# Altium footprint library 地学电子仪器设计与实践封装库.PcbLib: 17 footprints (part 1 of 2)
Each footprint in its own frame and in the unit in brackets; x right, y up, seen from the top. Pads: shape width x height; smd on the part's side, far side on the other; paste and mask are expansions set on the pad; w line width, h text height; cw(c..) or ccw(c..) is an arc to the next point about the centre after c.
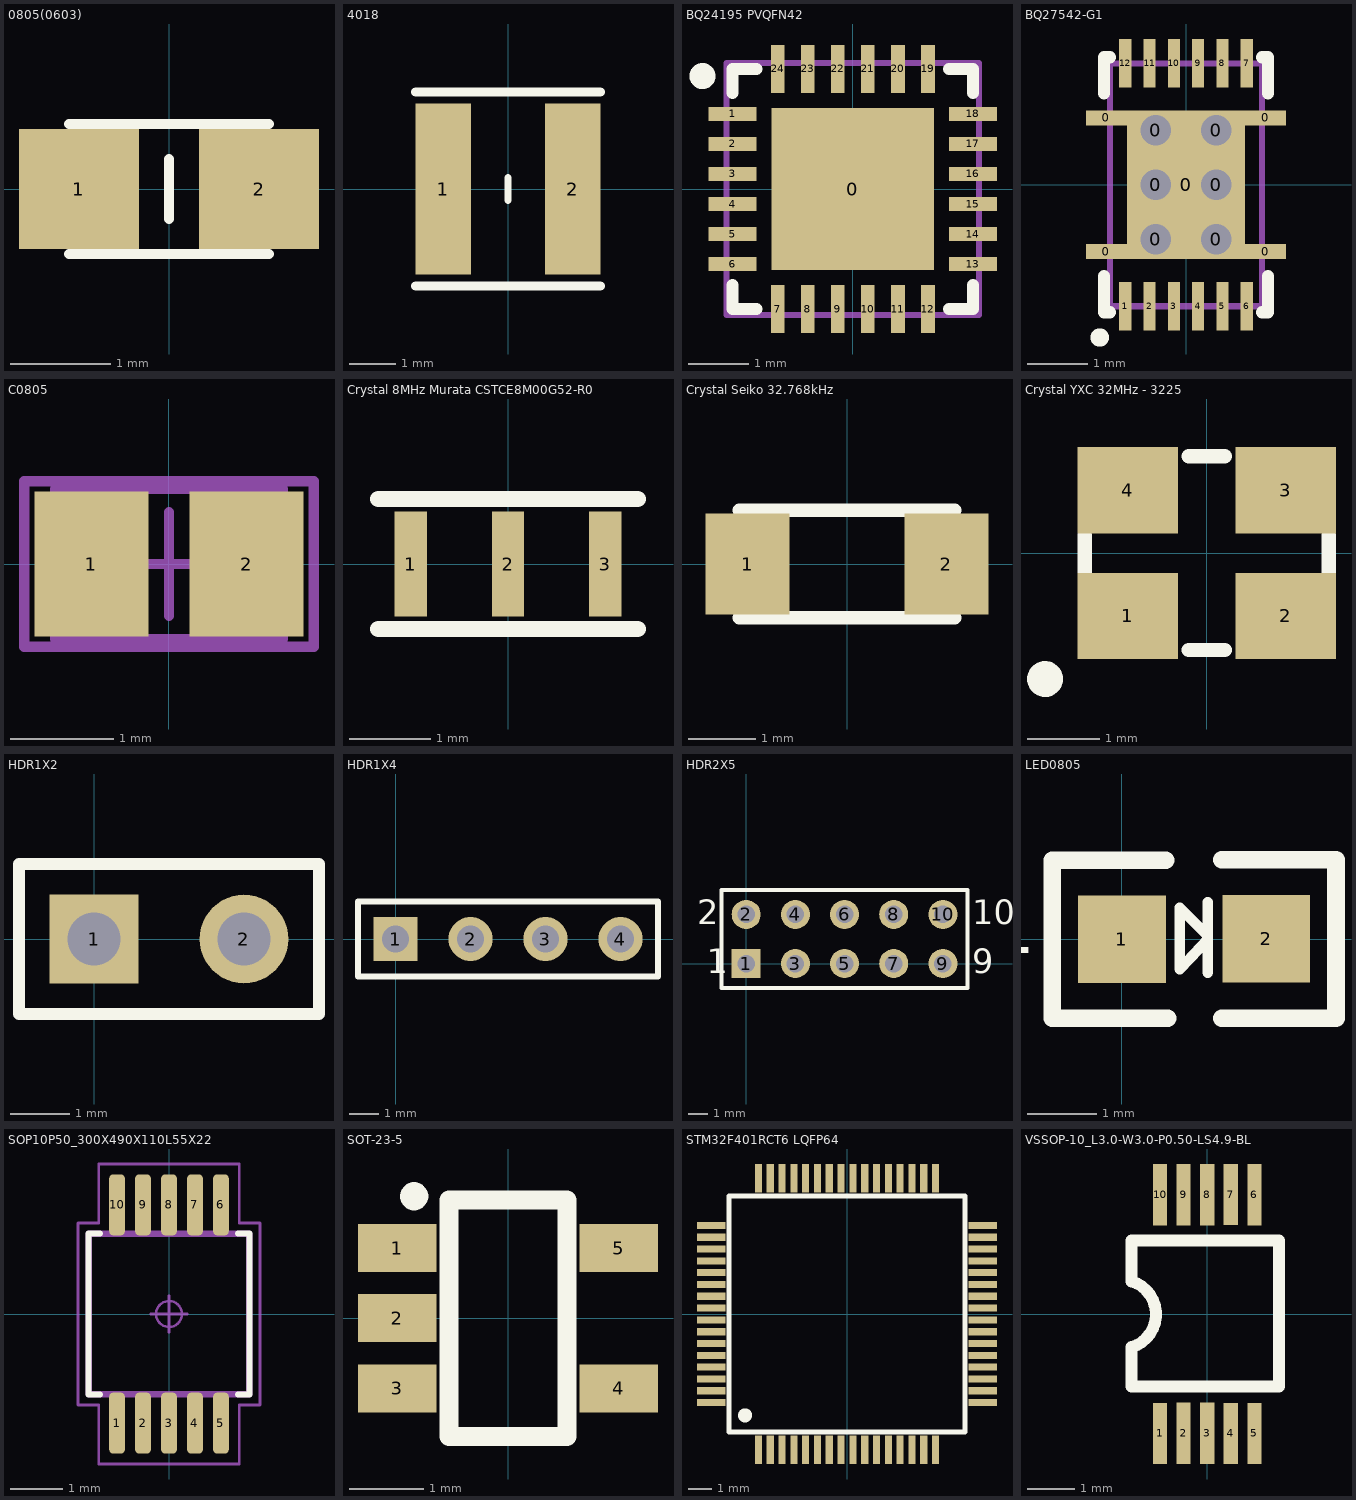
[diagram p0: the footprints below, top view; thin cyan lines are the x and y axes]

## 0805(0603) [mm] "0805 ,2.0mm*1.2mm,两侧焊盘余量0.5mm(兼容0603)"
pads (2):
  rect 1.2x1.2 smd: 1(-0.9,0) 2(0.9,0)
Top Overlay:
  lines w0.1: -1,-0.65 1,-0.65 ; -1,0.65 1,0.65 ; 0,-0.3 0,0.3

## 4018 [mm] "功率电感Taiyo Yuden 4018 2.2nH 4*4*1.8mm"
height 1.8
pads (2):
  rect 1.2x3.7 smd: 1(-1.4,0) 2(1.4,0)
Top Overlay:
  lines w0.152: 0,-0.254 0,0.254
  lines w0.2: -2,-2.1 2,-2.1 ; -2,2.1 2,2.1

## BQ24195 PVQFN42 [mm] "TI Charger 4A 4*4mm"
height 1
pads (25):
  rect 2.7x2.7 smd: 0(0,0)
  rect 0.8x0.23 smd mask+0.07: 1(-2,1.25) 2(-2,0.75) 3(-2,0.25) 4(-2,-0.25) 5(-2,-0.75) 6(-2,-1.25) 13(2,-1.25) 14(2,-0.75) 15(2,-0.25) 16(2,0.25) 17(2,0.75) 18(2,1.25)
  rect 0.23x0.8 smd mask+0.07: 7(-1.25,-2) 8(-0.75,-2) 9(-0.25,-2) 10(0.25,-2) 11(0.75,-2) 12(1.25,-2) 19(1.25,2) 20(0.75,2) 21(0.25,2) 22(-0.25,2) 23(-0.75,2) 24(-1.25,2)
Top Overlay:
  circle w0.254: c-2.503,1.88 r0.09
  lines w0.2: -2,-1.6 -2,-2 -1.6,-2 ; -2,1.6 -2,2 -1.6,2 ; 1.6,-2 2,-2 2,-1.6 ; 1.6,2 2,2 2,1.6
Mechanical 15:
  lines w0.1: -2.1,-2.1 2.1,-2.1 2.1,2.1 -2.1,2.1 -2.1,-2.1

## BQ27542-G1 [mm] "TI电量计"
height 1
pads (23):
  rect 0.675x0.25 smd mask+0.05: 0(-1.312,1.1) 0(-1.312,-1.1) 0(1.312,-1.1) 0(1.312,1.1)
  round 0.5 hole 0.5: 0(-0.5,-0.9) 0(-0.5,0) 0(-0.5,0.9) 0(0.5,-0.9) 0(0.5,0) 0(0.5,0.9)
  rect 1.95x2.45 smd mask+0.05: 0(0,0)
  rect 0.2x0.8 smd mask+0.05: 1(-1,-2) 2(-0.6,-2) 3(-0.2,-2) 4(0.2,-2) 5(0.6,-2) 6(1,-2) 7(1,2) 8(0.6,2) 9(0.2,2) 10(-0.2,2) 11(-0.6,2) 12(-1,2)
Top Overlay:
  circle w0.254: c-1.422,-2.515 r0.025
  lines w0.2: -1.35,-1.5 -1.35,-2.1 -1.25,-2.1 ; -1.35,1.5 -1.35,2.1 -1.25,2.1 ; 1.25,-2.1 1.35,-2.1 1.35,-1.5 ; 1.25,2.1 1.35,2.1 1.35,1.5
Mechanical 15:
  lines w0.1: -1.25,-2 -1.25,2 1.25,2 1.25,-2 -1.25,-2

## C0805 [mm] "Chip Capacitor, Body 2.0x1.3mm, IPC High Density"
height 1.4
pads (2):
  rect 1.1x1.4 smd: 1(-0.75,0) 2(0.75,0)
Mechanical 13:
  lines w0.1: -1.1,-0.725 1.1,-0.725 1.1,0.725 -1.1,0.725 -1.1,-0.725
Mechanical 15:
  lines w0.1: -0.5,0 0.5,0 ; 0,-0.5 0,0.5 ; -1.4,-0.8 1.4,-0.8 1.4,0.8 -1.4,0.8 -1.4,-0.8
3D body: height 1.4, standoff 0, extent -1.1,-0.725 1.1,0.725

## Crystal 8MHz Murata CSTCE8M00G52-R0 [mm] "贴片无源晶振-村田-8MHz-内置两个20pf电容-立创商城￥0.7  3.2*1.3mm"
height 0.7
pads (3):
  rect 0.4x1.3 smd: 1(-1.2,0) 2(0,0) 3(1.2,0)
Top Overlay:
  lines w0.2: -1.6,-0.8 1.6,-0.8 ; -1.6,0.8 1.6,0.8

## Crystal Seiko 32.768kHz [mm] "晶体 Seiko 32.768kHz 3.2*1.5mm 立创商城 7pF"
height 0.75
pads (2):
  rect 1.25x1.5 smd: 1(-1.475,0) 2(1.475,0)
Top Overlay:
  lines w0.2: -1.6,-0.8 1.6,-0.8 ; -1.6,0.8 1.6,0.8

## Crystal YXC 32MHz - 3225 [mm] "晶体 32MHZ 3.2*2.5mm 立创商城 10pF YSX321SL"
height 0.7
pads (4):
  rect 1.4x1.2 smd: 1(-1.1,-0.875) 2(1.1,-0.875) 3(1.1,0.875) 4(-1.1,0.875)
Top Overlay:
  circle w0.25: c-2.253,-1.754 r0.125
  lines w0.2: -1.7,-0.25 -1.7,0.25 ; -0.25,-1.35 0.25,-1.35 ; -0.25,1.35 0.25,1.35 ; 1.7,-0.25 1.7,0.25

## HDR1X2 [mm] "Connector; Header; 2 Position"
pads (2):
  rect 1.5x1.5 hole 0.9: 1(0,0)
  round 1.5 hole 0.9: 2(2.54,0)
Top Overlay:
  lines w0.2: -1.27,-1.27 3.81,-1.27 3.81,1.27 -1.27,1.27 -1.27,-1.27

## HDR1X4 [mm] "Connector; Header; 4 Position"
pads (4):
  rect 1.5x1.5 hole 0.9: 1(0,0)
  round 1.5 hole 0.9: 2(2.54,0) 3(5.08,0) 4(7.62,0)
Top Overlay:
  lines w0.2: -1.27,-1.27 8.89,-1.27 8.89,1.27 -1.27,1.27 -1.27,-1.27

## HDR2X5 [mm] "Connector; Header; 5x2 Position"
pads (10):
  rect 1.5x1.5 hole 0.9: 1(0,0)
  round 1.5 hole 0.9: 2(0,2.54) 3(2.54,0) 4(2.54,2.54) 5(5.08,0) 6(5.08,2.54) 7(7.62,0) 8(7.62,2.54) 9(10.16,0) 10(10.16,2.54)
Top Overlay:
  lines w0.2: -1.27,-1.27 11.43,-1.27 11.43,3.81 -1.27,3.81 -1.27,-1.27
  text "10" at 11.684,2.032 h1.27
  text "9" at 11.684,-0.508 h1.27
  text "1" at -2.032,-0.508 h1.27
  text "2" at -2.54,2.032 h1.27

## LED0805 [mm] "1/8W"
pads (2):
  rect 1.27x1.27 smd: 1(0,0) 2(2.09,0.005)
Top Overlay:
  lines w0.152: 1.245,-0.483 1.245,0.533 ; 1.245,0 0.838,-0.432 0.838,0.457 1.245,0.051
  lines w0.254: 0.635,1.143 -1.011,1.143 -1.011,-1.143 0.66,-1.143 ; 1.448,-1.143 3.099,-1.143 3.099,1.148 1.448,1.148
  text "+" at -1.245,-0.483 h0.76
3D body: height 0.46, standoff 0, extent 0.774,-0.254 1.309,0.305
3D body: height 0.5, standoff 0, extent 0.051,-0.635 0.279,0.635
3D body: height 0.5, standoff 0, extent 1.803,-0.635 2.032,0.635
3D body: height 0.5, standoff 0, extent 0.279,-0.635 1.803,0.635

## SOP10P50_300X490X110L55X22 [mm] "Small Outline Pkg (SOP), 0.65 mm pitch; 24 pin, 7.80 mm L X 4.40 mm W X 1.20 mm H body"
height 1.1
pads (10):
  rrect50% 0.3x1.171 smd: 1(-1,-2.1) 2(-0.5,-2.1) 3(0,-2.1) 4(0.5,-2.1) 5(1,-2.1) 6(1,2.1) 7(0.5,2.1) 8(0,2.1) 9(-0.5,2.1) 10(-1,2.1)
Top Overlay:
  lines w0.12: -1.33,-1.55 -1.55,-1.55 -1.55,1.55 -1.33,1.55 ; 1.33,-1.55 1.55,-1.55 1.55,1.55 1.33,1.55
Mechanical 11:
  lines w0.12: -1.55,-1.55 1.55,-1.55 1.55,1.55 -1.55,1.55 -1.55,-1.55
Mechanical 12:
  lines w0.025: -1.5,-1.5 1.5,-1.5 1.5,1.5 -1.5,1.5 -1.5,-1.5 ; -1.11,-2.45 -1.11,-1.9 -0.89,-1.9 -0.89,-2.45 -1.11,-2.45 ; -1.11,1.9 -1.11,2.45 -0.89,2.45 -0.89,1.9 -1.11,1.9 ; -0.61,-2.45 -0.61,-1.9 -0.39,-1.9 -0.39,-2.45 -0.61,-2.45 ; -0.61,1.9 -0.61,2.45 -0.39,2.45 -0.39,1.9 -0.61,1.9 ; -0.11,-2.45 -0.11,-1.9 0.11,-1.9 0.11,-2.45 -0.11,-2.45 ; -0.11,1.9 -0.11,2.45 0.11,2.45 0.11,1.9 -0.11,1.9 ; 0.39,-2.45 0.39,-1.9 0.61,-1.9 0.61,-2.45 0.39,-2.45 ; 0.39,1.9 0.39,2.45 0.61,2.45 0.61,1.9 0.39,1.9 ; 0.89,-2.45 0.89,-1.9 1.11,-1.9 1.11,-2.45 0.89,-2.45 ; 0.89,1.9 0.89,2.45 1.11,2.45 1.11,1.9 0.89,1.9
Mechanical 15:
  circle w0.05: c0,0 r0.25
  lines w0.05: -0.35,0 0.35,0 ; 0,-0.35 0,0.35 ; -1.75,-1.75 -1.35,-1.75 -1.35,-2.886 1.35,-2.886 1.35,-1.75 1.75,-1.75 1.75,1.75 1.35,1.75 1.35,2.886 -1.35,2.886 -1.35,1.75 -1.75,1.75 -1.75,-1.75
Mechanical 16:
  text ".Designator" at 0,0 h1.2
3D body "SOP10P50_300X490X110L55X22.STEP": height 1.1, standoff 0, extent -1.5,-2.45 1.5,2.45

## SOT-23-5 [mm]
pads (5):
  rect 1.062x0.65 smd: 1(-1.5,0.95) 2(-1.5,0) 3(-1.5,-0.95) 4(1.5,-0.95) 5(1.5,0.95)
Top Overlay:
  circle w0.254: c-1.27,1.651 r0.064
  lines w0.254: -0.8,-1.6 0.8,-1.6 0.8,1.6 -0.8,1.6 -0.8,-1.6

## STM32F401RCT6 LQFP64 [mm] "STM32F401RCT6 LQFP64 10*10mm"
height 1.6
pads (64):
  rect 0.3x1.2 smd: 1(-3.75,-5.75) 2(-3.25,-5.75) 3(-2.75,-5.75) 4(-2.25,-5.75) 5(-1.75,-5.75) 6(-1.25,-5.75) 7(-0.75,-5.75) 8(-0.25,-5.75) 9(0.25,-5.75) 10(0.75,-5.75) 11(1.25,-5.75) 12(1.75,-5.75) 13(2.25,-5.75) 14(2.75,-5.75) 15(3.25,-5.75) 16(3.75,-5.75) 33(3.75,5.75) 34(3.25,5.75) 35(2.75,5.75) 36(2.25,5.75) 37(1.75,5.75) 38(1.25,5.75) 39(0.75,5.75) 40(0.25,5.75) 41(-0.25,5.75) 42(-0.75,5.75) 43(-1.25,5.75) 44(-1.75,5.75) 45(-2.25,5.75) 46(-2.75,5.75) 47(-3.25,5.75) 48(-3.75,5.75)
  rect 1.2x0.3 smd: 17(5.75,-3.75) 18(5.75,-3.25) 19(5.75,-2.75) 20(5.75,-2.25) 21(5.75,-1.75) 22(5.75,-1.25) 23(5.75,-0.75) 24(5.75,-0.25) 25(5.75,0.25) 26(5.75,0.75) 27(5.75,1.25) 28(5.75,1.75) 29(5.75,2.25) 30(5.75,2.75) 31(5.75,3.25) 32(5.75,3.75) 49(-5.75,3.75) 50(-5.75,3.25) 51(-5.75,2.75) 52(-5.75,2.25) 53(-5.75,1.75) 54(-5.75,1.25) 55(-5.75,0.75) 56(-5.75,0.25) 57(-5.75,-0.25) 58(-5.75,-0.75) 59(-5.75,-1.25) 60(-5.75,-1.75) 61(-5.75,-2.25) 62(-5.75,-2.75) 63(-5.75,-3.25) 64(-5.75,-3.75)
Top Overlay:
  circle w0.3: c-4.316,-4.293 r0.15
  lines w0.2: -5,-5 -5,5 5,5 5,-5 -5,-5

## VSSOP-10_L3.0-W3.0-P0.50-LS4.9-BL [mm]
pads (10):
  rect 0.3x1.3 smd: 1(-1,-2.534) 2(-0.5,-2.533) 3(0,-2.533) 4(0.5,-2.534) 5(1,-2.534) 6(1,2.532) 7(0.5,2.534) 8(0,2.533) 9(-0.5,2.532) 10(-1,2.532)
Top Overlay:
  lines w0.254: -1.603,-1.542 -1.603,-0.704 ccw(c-1.82,-0.006) -1.603,0.693 ; -1.603,0.718 -1.603,1.557 ; -1.578,-1.542 1.522,-1.542 ; -1.578,1.557 1.522,1.557 1.522,-1.544